# EAGLE library part PICO (library PICO)
RP2040 microcontroller chip designed by Raspberry Pi in the United Kingdom 2 SPI, 2 I2C, 2 UART, 3 12-bit ADC, 16 controllable PWM channels Source: Datasheet <https://datasheets.raspberrypi.org/pico/pico_datasheet.pdf>
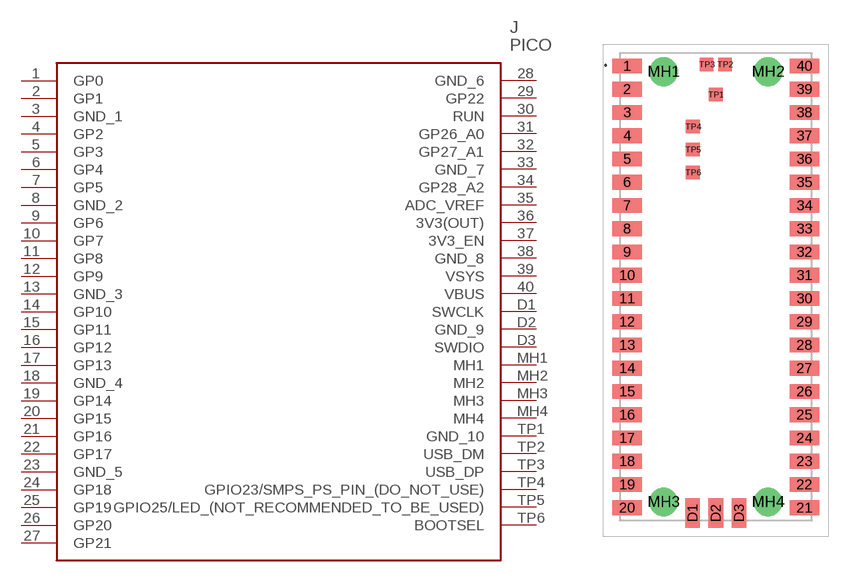
[diagram p0: symbol with the pads of PICO; footprint PICO]

Designator prefix J

## PICO (Description: RP2040 microcontroller chip designed by Raspberry Pi in the United Kingdom 2 SPI, 2 I2C, 2 UART, 3 12-bit ADC, 16 controllable PWM channels; Height: 1mm; Manufacturer_Name: RASPBERRY-PI; Manufacturer_Part_Number: PICO)  [PICO]
1  GP0
2  GP1
3  GND_1
4  GP2
5  GP3
6  GP4
7  GP5
8  GND_2
9  GP6
10  GP7
11  GP8
12  GP9
13  GND_3
14  GP10
15  GP11
16  GP12
17  GP13
18  GND_4
19  GP14
20  GP15
21  GP16
22  GP17
23  GND_5
24  GP18
25  GP19
26  GP20
27  GP21
28  GND_6
29  GP22
30  RUN
31  GP26_A0
32  GP27_A1
33  GND_7
34  GP28_A2
35  ADC_VREF
36  3V3(OUT)
37  3V3_EN
38  GND_8
39  VSYS
40  VBUS
D1  SWCLK
D2  GND_9
D3  SWDIO
MH1  MH1
MH2  MH2
MH3  MH3
MH4  MH4
TP1  GND_10
TP2  USB_DM
TP3  USB_DP
TP4  GPIO23/SMPS_PS_PIN_(DO_NOT_USE)
TP5  GPIO25/LED_(NOT_RECOMMENDED_TO_BE_USED)
TP6  BOOTSEL

## Footprint PICO (pad centres in mm)
PICO
smd 3.2 x 1.6: 1 -9.69,24.13; 2 -9.69,21.59; 3 -9.69,19.05; 4 -9.69,16.51; 5 -9.69,13.97; 6 -9.69,11.43; 7 -9.69,8.89; 8 -9.69,6.35; 9 -9.69,3.81; 10 -9.69,1.27; 11 -9.69,-1.27; 12 -9.69,-3.81; 13 -9.69,-6.35; 14 -9.69,-8.89; 15 -9.69,-11.43; 16 -9.69,-13.97; 17 -9.69,-16.51; 18 -9.69,-19.05; 19 -9.69,-21.59; 20 -9.69,-24.13; 21 9.69,-24.13; 22 9.69,-21.59; 23 9.69,-19.05; 24 9.69,-16.51; 25 9.69,-13.97; 26 9.69,-11.43; 27 9.69,-8.89; 28 9.69,-6.35; 29 9.69,-3.81; 30 9.69,-1.27; 31 9.69,1.27; 32 9.69,3.81; 33 9.69,6.35; 34 9.69,8.89; 35 9.69,11.43; 36 9.69,13.97; 37 9.69,16.51; 38 9.69,19.05; 39 9.69,21.59; 40 9.69,24.13
smd 1.6 x 3.2: D1 -2.54,-24.7; D2 0,-24.7; D3 2.54,-24.7
drill 2.1 pad 3.15: MH1 -5.7,23.5; MH2 5.7,23.5; MH3 -5.7,-23.5; MH4 5.7,-23.5
smd 1.5 x 1.5: TP1 0,21; TP2 1,24.3; TP3 -1,24.3; TP4 -2.5,17.5; TP5 -2.5,15; TP6 -2.5,12.5